# Altium footprint library buzzer.PcbLib: 1 footprints
Each footprint in its own frame and in the unit in brackets; x right, y up, seen from the top. Pads: shape width x height; smd on the part's side, far side on the other; paste and mask are expansions set on the pad; w line width, h text height; cw(c..) or ccw(c..) is an arc to the next point about the centre after c.
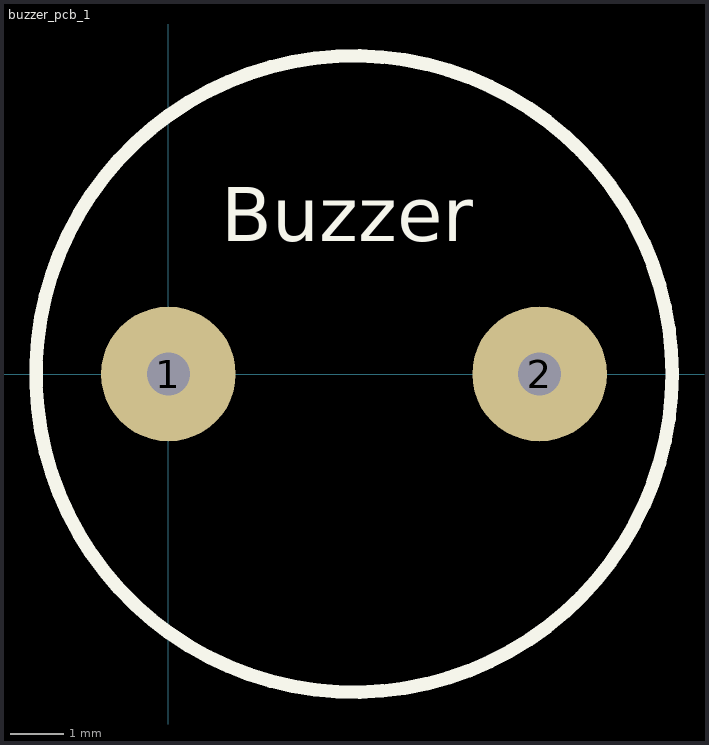
[diagram p0: the footprint, top view; thin cyan lines are the x and y axes]

## buzzer_pcb_1 [mil]
pads (2):
  round 100 hole 32: 1(0,0) 2(275.59,0)
Top Overlay:
  circle w10: c137.8,0 r236.22
  text "Buzzer" at 39.37,98.43 h40
3D body: height 295.28, standoff -78.74, extent -98.43,-235.95 373.5,235.95